# Altium schematic symbol library Real-Time Clocks (RTCs).SchLib: 548 symbols (part 10 of 13)
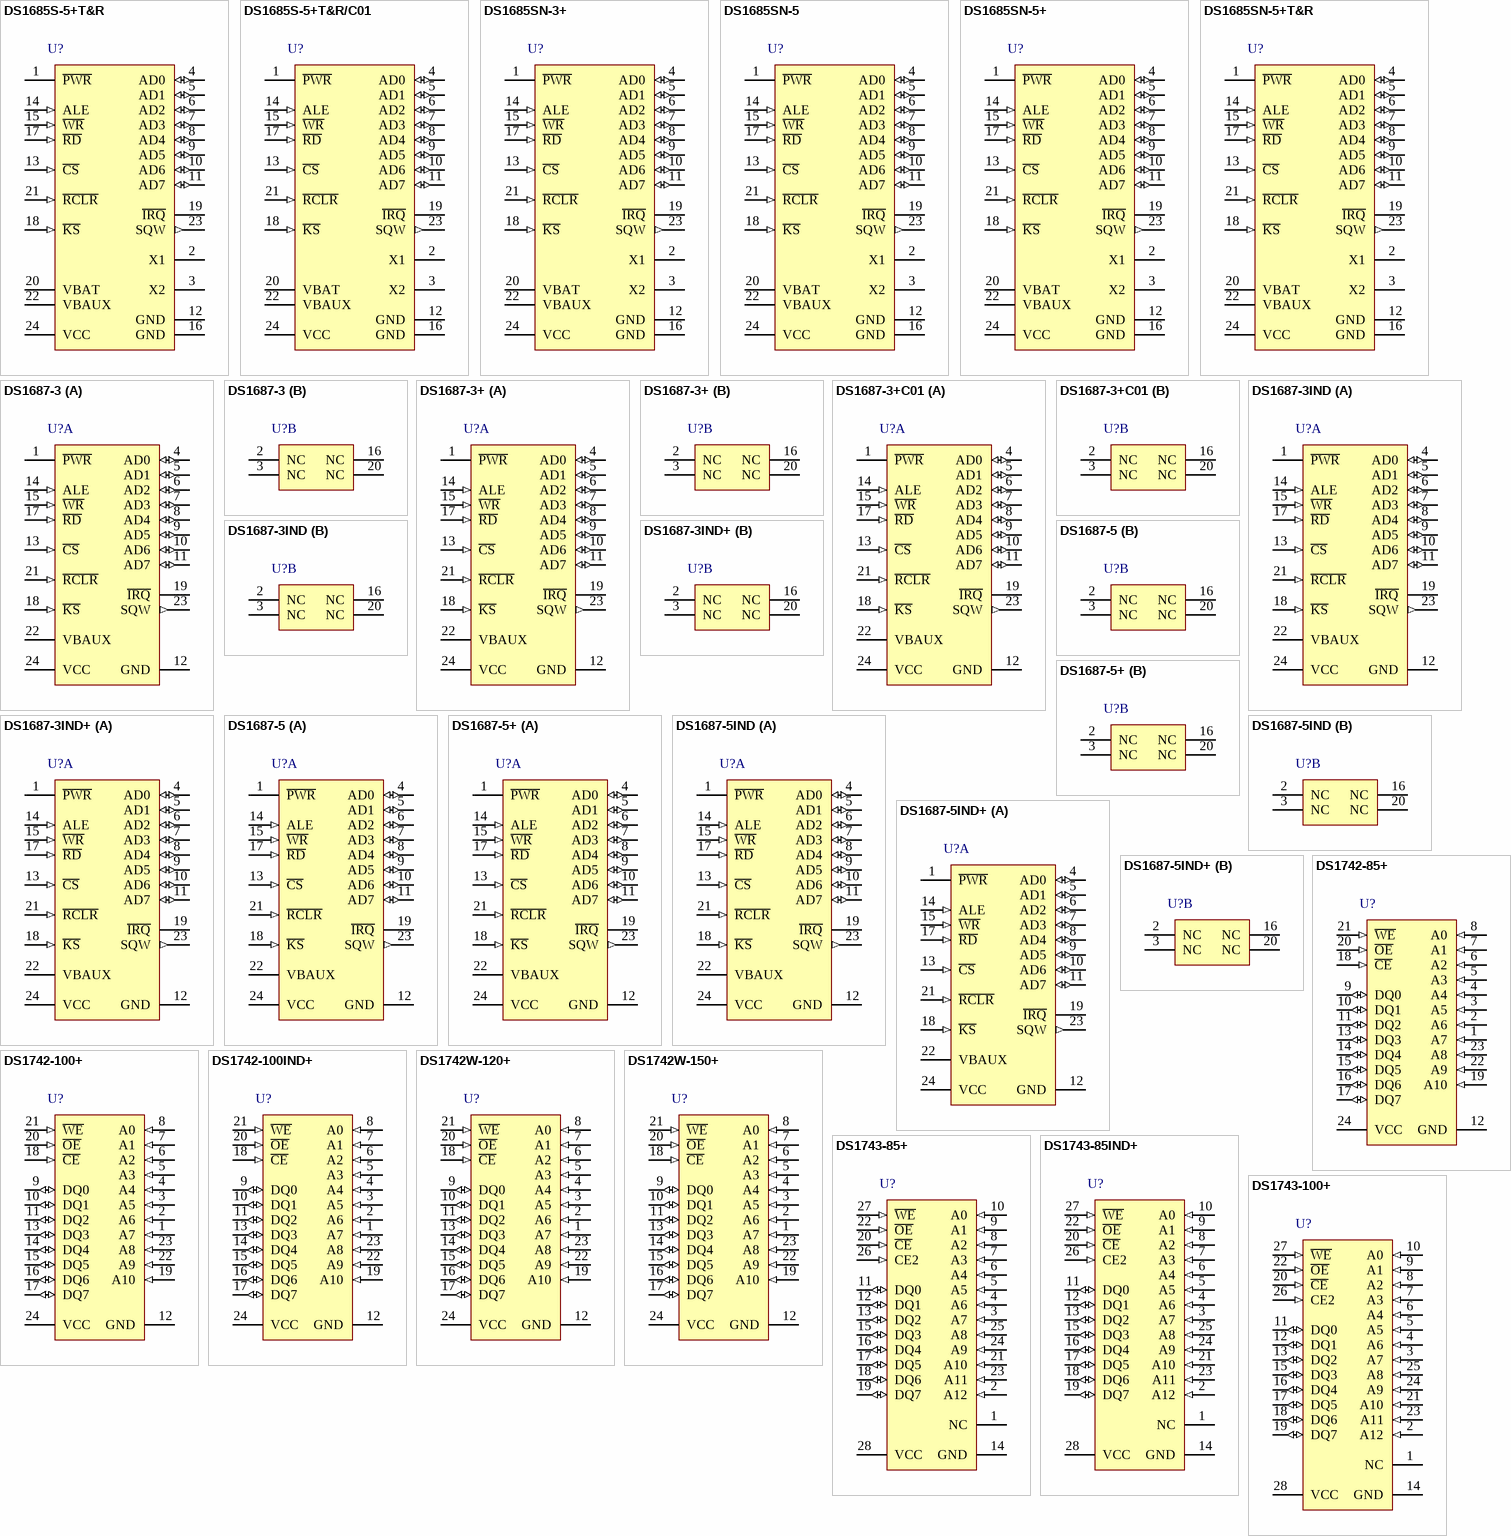
[diagram p30: symbols DS1685S-5+T&R to DS1743-100+]

## DS1687-3IND+
designator U?
Real-Time Clock, 242 Byte Battery-Backed NV RAM, 3.0V, 24-Pin EDIP, -40 to 85 degC, Pb-Free; DatasheetVersion: Apr-2010; PackageVersion: revA, Feb-2009; PackageReference: MDP24+2; PackageDescription: 24-Pin Encapsulated Dual-In-Line Module, 2.54 mm Pitch, EDIP, 740-mil, Pb-Free; ComponentLink1Description: Manufacturer URL; ComponentLink1URL: http://www.maxim-ic.com; ComponentLink2Description: Datasheet; ComponentLink2URL: http://datasheets.maxim-ic.com/en/ds/DS1685-DS1687.pdf; ComponentLink3Description: Package Specification; ComponentLink3URL: http://pdfserv.maxim-ic.com/package_dwgs/21-0241.PDF
footprint MDP24+2 (DIP; 24 Rectangular Pins, Body 33.8x18.5mm, Row Space 15.24mm, Pitch 2.54mm)
part A pins: 1 ~{PWR} (oc), 4 AD0 (io), 5 AD1 (io), 6 AD2 (io), 7 AD3 (io), 8 AD4 (io), 9 AD5 (io), 10 AD6 (io), 11 AD7 (io), 12 GND (power), 13 ~{CS} (in), 14 ALE (in), 15 ~{WR} (in), 17 ~{RD} (in), 18 ~{KS} (in), 19 ~{IRQ} (oc), 21 ~{RCLR} (in), 22 VBAUX (power), 23 SQW (out), 24 VCC (power)
part B pins: 2 NC, 3 NC, 16 NC, 20 NC

## DS1687-5
designator U?
Real-Time Clock, 242 Byte Battery-Backed NV RAM, 5.0V, 24-Pin EDIP, 0 to 70 degC; DatasheetVersion: Apr-2010; PackageVersion: revA, Feb-2009; PackageReference: MDP24-2; PackageDescription: 24-Pin Encapsulated Dual-In-Line Module, 2.54 mm Pitch, EDIP, 740-mil; ComponentLink1Description: Manufacturer URL; ComponentLink1URL: http://www.maxim-ic.com; ComponentLink2Description: Datasheet; ComponentLink2URL: http://datasheets.maxim-ic.com/en/ds/DS1685-DS1687.pdf; ComponentLink3Description: Package Specification; ComponentLink3URL: http://pdfserv.maxim-ic.com/package_dwgs/21-0241.PDF
footprint MDP24-2 (DIP; 24 Rectangular Pins, Body 33.8x18.5mm, Row Space 15.24mm, Pitch 2.54mm)
part A pins: 1 ~{PWR} (oc), 4 AD0 (io), 5 AD1 (io), 6 AD2 (io), 7 AD3 (io), 8 AD4 (io), 9 AD5 (io), 10 AD6 (io), 11 AD7 (io), 12 GND (power), 13 ~{CS} (in), 14 ALE (in), 15 ~{WR} (in), 17 ~{RD} (in), 18 ~{KS} (in), 19 ~{IRQ} (oc), 21 ~{RCLR} (in), 22 VBAUX (power), 23 SQW (out), 24 VCC (power)
part B pins: 2 NC, 3 NC, 16 NC, 20 NC

## DS1687-5+
designator U?
Real-Time Clock, 242 Byte Battery-Backed NV RAM, 5.0V, 24-Pin EDIP, 0 to 70 degC, Pb-Free; DatasheetVersion: Apr-2010; PackageVersion: revA, Feb-2009; PackageReference: MDP24+2; PackageDescription: 24-Pin Encapsulated Dual-In-Line Module, 2.54 mm Pitch, EDIP, 740-mil, Pb-Free; ComponentLink1Description: Manufacturer URL; ComponentLink1URL: http://www.maxim-ic.com; ComponentLink2Description: Datasheet; ComponentLink2URL: http://datasheets.maxim-ic.com/en/ds/DS1685-DS1687.pdf; ComponentLink3Description: Package Specification; ComponentLink3URL: http://pdfserv.maxim-ic.com/package_dwgs/21-0241.PDF
footprint MDP24+2 (DIP; 24 Rectangular Pins, Body 33.8x18.5mm, Row Space 15.24mm, Pitch 2.54mm)
part A pins: 1 ~{PWR} (oc), 4 AD0 (io), 5 AD1 (io), 6 AD2 (io), 7 AD3 (io), 8 AD4 (io), 9 AD5 (io), 10 AD6 (io), 11 AD7 (io), 12 GND (power), 13 ~{CS} (in), 14 ALE (in), 15 ~{WR} (in), 17 ~{RD} (in), 18 ~{KS} (in), 19 ~{IRQ} (oc), 21 ~{RCLR} (in), 22 VBAUX (power), 23 SQW (out), 24 VCC (power)
part B pins: 2 NC, 3 NC, 16 NC, 20 NC

## DS1687-5IND
designator U?
Real-Time Clock, 242 Byte Battery-Backed NV RAM, 5.0V, 24-Pin EDIP, -40 to 85 degC; DatasheetVersion: Apr-2010; PackageVersion: revA, Feb-2009; PackageReference: MDP24-2; PackageDescription: 24-Pin Encapsulated Dual-In-Line Module, 2.54 mm Pitch, EDIP, 740-mil; ComponentLink1Description: Manufacturer URL; ComponentLink1URL: http://www.maxim-ic.com; ComponentLink2Description: Datasheet; ComponentLink2URL: http://datasheets.maxim-ic.com/en/ds/DS1685-DS1687.pdf; ComponentLink3Description: Package Specification; ComponentLink3URL: http://pdfserv.maxim-ic.com/package_dwgs/21-0241.PDF
footprint MDP24-2 (DIP; 24 Rectangular Pins, Body 33.8x18.5mm, Row Space 15.24mm, Pitch 2.54mm)
part A pins: 1 ~{PWR} (oc), 4 AD0 (io), 5 AD1 (io), 6 AD2 (io), 7 AD3 (io), 8 AD4 (io), 9 AD5 (io), 10 AD6 (io), 11 AD7 (io), 12 GND (power), 13 ~{CS} (in), 14 ALE (in), 15 ~{WR} (in), 17 ~{RD} (in), 18 ~{KS} (in), 19 ~{IRQ} (oc), 21 ~{RCLR} (in), 22 VBAUX (power), 23 SQW (out), 24 VCC (power)
part B pins: 2 NC, 3 NC, 16 NC, 20 NC

## DS1687-5IND+
designator U?
Real-Time Clock, 242 Byte Battery-Backed NV RAM, 5.0V, 24-Pin EDIP, -40 to 85 degC, Pb-Free; DatasheetVersion: Apr-2010; PackageVersion: revA, Feb-2009; PackageReference: MDP24+2; PackageDescription: 24-Pin Encapsulated Dual-In-Line Module, 2.54 mm Pitch, EDIP, 740-mil, Pb-Free; ComponentLink1Description: Manufacturer URL; ComponentLink1URL: http://www.maxim-ic.com; ComponentLink2Description: Datasheet; ComponentLink2URL: http://datasheets.maxim-ic.com/en/ds/DS1685-DS1687.pdf; ComponentLink3Description: Package Specification; ComponentLink3URL: http://pdfserv.maxim-ic.com/package_dwgs/21-0241.PDF
footprint MDP24+2 (DIP; 24 Rectangular Pins, Body 33.8x18.5mm, Row Space 15.24mm, Pitch 2.54mm)
part A pins: 1 ~{PWR} (oc), 4 AD0 (io), 5 AD1 (io), 6 AD2 (io), 7 AD3 (io), 8 AD4 (io), 9 AD5 (io), 10 AD6 (io), 11 AD7 (io), 12 GND (power), 13 ~{CS} (in), 14 ALE (in), 15 ~{WR} (in), 17 ~{RD} (in), 18 ~{KS} (in), 19 ~{IRQ} (oc), 21 ~{RCLR} (in), 22 VBAUX (power), 23 SQW (out), 24 VCC (power)
part B pins: 2 NC, 3 NC, 16 NC, 20 NC

## DS1742-85+
designator U?
Y2K-Compliant Nonvolatile Timekeeping RAM, 5.0V, 24-Pin EDIP, 0 to 70 degC, Pb-Free; DatasheetVersion: Oct-2008; PackageVersion: revA, Feb-2009; PackageReference: MDF24+1; PackageDescription: 24-Pin Encapsulated Dual-In-Line Module, 2.54 mm Pitch, EDIP, Pb-Free; ComponentLink1Description: Manufacturer URL; ComponentLink1URL: http://www.maxim-ic.com; ComponentLink2Description: Datasheet; ComponentLink2URL: http://datasheets.maxim-ic.com/en/ds/DS1742.pdf; ComponentLink3Description: Package Specification; ComponentLink3URL: http://pdfserv.maxim-ic.com/package_dwgs/21-0245.PDF
footprint MDF24+1 (DIP, 24 Rectangular Pins, Body 33x17.8mm, Row Space 15.24mm, Pitch 2.54mm)
pins: 1 A7 (in), 2 A6 (in), 3 A5 (in), 4 A4 (in), 5 A3 (in), 6 A2 (in), 7 A1 (in), 8 A0 (in), 9 DQ0 (io), 10 DQ1 (io), 11 DQ2 (io), 12 GND (power), 13 DQ3 (io), 14 DQ4 (io), 15 DQ5 (io), 16 DQ6 (io), 17 DQ7 (io), 18 ~{CE} (in), 19 A10 (in), 20 ~{OE} (in), 21 ~{WE} (in), 22 A9 (in), 23 A8 (in), 24 VCC (power)

## DS1742-100+
designator U?
Y2K-Compliant Nonvolatile Timekeeping RAM, 5.0V, 24-Pin EDIP, 0 to 70 degC, Pb-Free; DatasheetVersion: Oct-2008; PackageVersion: revA, Feb-2009; PackageReference: MDF24+1; PackageDescription: 24-Pin Encapsulated Dual-In-Line Module, 2.54 mm Pitch, EDIP, Pb-Free; ComponentLink1Description: Manufacturer URL; ComponentLink1URL: http://www.maxim-ic.com; ComponentLink2Description: Datasheet; ComponentLink2URL: http://datasheets.maxim-ic.com/en/ds/DS1742.pdf; ComponentLink3Description: Package Specification; ComponentLink3URL: http://pdfserv.maxim-ic.com/package_dwgs/21-0245.PDF
footprint MDF24+1 (DIP, 24 Rectangular Pins, Body 33x17.8mm, Row Space 15.24mm, Pitch 2.54mm)
pins: 1 A7 (in), 2 A6 (in), 3 A5 (in), 4 A4 (in), 5 A3 (in), 6 A2 (in), 7 A1 (in), 8 A0 (in), 9 DQ0 (io), 10 DQ1 (io), 11 DQ2 (io), 12 GND (power), 13 DQ3 (io), 14 DQ4 (io), 15 DQ5 (io), 16 DQ6 (io), 17 DQ7 (io), 18 ~{CE} (in), 19 A10 (in), 20 ~{OE} (in), 21 ~{WE} (in), 22 A9 (in), 23 A8 (in), 24 VCC (power)

## DS1742-100IND+
designator U?
Y2K-Compliant Nonvolatile Timekeeping RAM, 5.0V, 24-Pin EDIP, -40 to 85 degC, Pb-Free; DatasheetVersion: Oct-2008; PackageVersion: revA, Feb-2009; PackageReference: MDF24+1; PackageDescription: 24-Pin Encapsulated Dual-In-Line Module, 2.54 mm Pitch, EDIP, Pb-Free; ComponentLink1Description: Manufacturer URL; ComponentLink1URL: http://www.maxim-ic.com; ComponentLink2Description: Datasheet; ComponentLink2URL: http://datasheets.maxim-ic.com/en/ds/DS1742.pdf; ComponentLink3Description: Package Specification; ComponentLink3URL: http://pdfserv.maxim-ic.com/package_dwgs/21-0245.PDF
footprint MDF24+1 (DIP, 24 Rectangular Pins, Body 33x17.8mm, Row Space 15.24mm, Pitch 2.54mm)
pins: 1 A7 (in), 2 A6 (in), 3 A5 (in), 4 A4 (in), 5 A3 (in), 6 A2 (in), 7 A1 (in), 8 A0 (in), 9 DQ0 (io), 10 DQ1 (io), 11 DQ2 (io), 12 GND (power), 13 DQ3 (io), 14 DQ4 (io), 15 DQ5 (io), 16 DQ6 (io), 17 DQ7 (io), 18 ~{CE} (in), 19 A10 (in), 20 ~{OE} (in), 21 ~{WE} (in), 22 A9 (in), 23 A8 (in), 24 VCC (power)

## DS1742W-120+
designator U?
Y2K-Compliant Nonvolatile Timekeeping RAM, 3.3V, 24-Pin EDIP, 0 to 70 degC, Pb-Free; DatasheetVersion: Oct-2008; PackageVersion: revA, Feb-2009; PackageReference: MDF24+1; PackageDescription: 24-Pin Encapsulated Dual-In-Line Module, 2.54 mm Pitch, EDIP, Pb-Free; ComponentLink1Description: Manufacturer URL; ComponentLink1URL: http://www.maxim-ic.com; ComponentLink2Description: Datasheet; ComponentLink2URL: http://datasheets.maxim-ic.com/en/ds/DS1742.pdf; ComponentLink3Description: Package Specification; ComponentLink3URL: http://pdfserv.maxim-ic.com/package_dwgs/21-0245.PDF
footprint MDF24+1 (DIP, 24 Rectangular Pins, Body 33x17.8mm, Row Space 15.24mm, Pitch 2.54mm)
pins: 1 A7 (in), 2 A6 (in), 3 A5 (in), 4 A4 (in), 5 A3 (in), 6 A2 (in), 7 A1 (in), 8 A0 (in), 9 DQ0 (io), 10 DQ1 (io), 11 DQ2 (io), 12 GND (power), 13 DQ3 (io), 14 DQ4 (io), 15 DQ5 (io), 16 DQ6 (io), 17 DQ7 (io), 18 ~{CE} (in), 19 A10 (in), 20 ~{OE} (in), 21 ~{WE} (in), 22 A9 (in), 23 A8 (in), 24 VCC (power)

## DS1742W-150+
designator U?
Y2K-Compliant Nonvolatile Timekeeping RAM, 3.3V, 24-Pin EDIP, 0 to 70 degC, Pb-Free; DatasheetVersion: Oct-2008; PackageVersion: revA, Feb-2009; PackageReference: MDF24+1; PackageDescription: 24-Pin Encapsulated Dual-In-Line Module, 2.54 mm Pitch, EDIP, Pb-Free; ComponentLink1Description: Manufacturer URL; ComponentLink1URL: http://www.maxim-ic.com; ComponentLink2Description: Datasheet; ComponentLink2URL: http://datasheets.maxim-ic.com/en/ds/DS1742.pdf; ComponentLink3Description: Package Specification; ComponentLink3URL: http://pdfserv.maxim-ic.com/package_dwgs/21-0245.PDF
footprint MDF24+1 (DIP, 24 Rectangular Pins, Body 33x17.8mm, Row Space 15.24mm, Pitch 2.54mm)
pins: 1 A7 (in), 2 A6 (in), 3 A5 (in), 4 A4 (in), 5 A3 (in), 6 A2 (in), 7 A1 (in), 8 A0 (in), 9 DQ0 (io), 10 DQ1 (io), 11 DQ2 (io), 12 GND (power), 13 DQ3 (io), 14 DQ4 (io), 15 DQ5 (io), 16 DQ6 (io), 17 DQ7 (io), 18 ~{CE} (in), 19 A10 (in), 20 ~{OE} (in), 21 ~{WE} (in), 22 A9 (in), 23 A8 (in), 24 VCC (power)

## DS1743-85+
designator U?
Y2K-Compliant Nonvolatile Timekeeping RAM, 5.0V, 28-Pin EDIP, 0 to 70 degC, Pb-Free; DatasheetVersion: Apr-2007; PackageVersion: revA, Feb-2009; PackageReference: MDF28+2; PackageDescription: 28-Pin Encapsulated Dual-In-Line Module, 2.54 mm Pitch, EDIP, 740-mil, Pb-Free; ComponentLink1Description: Manufacturer URL; ComponentLink1URL: http://www.maxim-ic.com; ComponentLink2Description: Datasheet; ComponentLink2URL: http://datasheets.maxim-ic.com/en/ds/DS1743-DS1743P.pdf; ComponentLink3Description: Package Specification; ComponentLink3URL: http://pdfserv.maxim-ic.com/package_dwgs/21-0245.PDF
footprint MDF28+2 (DIP, 28 Rectangular Pins, Body 38.2x18.5mm, Row Space 15.24mm, Pitch 2.54mm)
pins: 1 NC, 2 A12 (in), 3 A7 (in), 4 A6 (in), 5 A5 (in), 6 A4 (in), 7 A3 (in), 8 A2 (in), 9 A1 (in), 10 A0 (in), 11 DQ0 (io), 12 DQ1 (io), 13 DQ2 (io), 14 GND (power), 15 DQ3 (io), 16 DQ4 (io), 17 DQ5 (io), 18 DQ6 (io), 19 DQ7 (io), 20 ~{CE} (in), 21 A10 (in), 22 ~{OE} (in), 23 A11 (in), 24 A9 (in), 25 A8 (in), 26 CE2 (in), 27 ~{WE} (in), 28 VCC (power)

## DS1743-85IND+
designator U?
Y2K-Compliant Nonvolatile Timekeeping RAM, 5.0V, 28-Pin EDIP, -40 to 85 degC, Pb-Free; DatasheetVersion: Apr-2007; PackageVersion: revA, Feb-2009; PackageReference: MDF28+2; PackageDescription: 28-Pin Encapsulated Dual-In-Line Module, 2.54 mm Pitch, EDIP, 740-mil, Pb-Free; ComponentLink1Description: Manufacturer URL; ComponentLink1URL: http://www.maxim-ic.com; ComponentLink2Description: Datasheet; ComponentLink2URL: http://datasheets.maxim-ic.com/en/ds/DS1743-DS1743P.pdf; ComponentLink3Description: Package Specification; ComponentLink3URL: http://pdfserv.maxim-ic.com/package_dwgs/21-0245.PDF
footprint MDF28+2 (DIP, 28 Rectangular Pins, Body 38.2x18.5mm, Row Space 15.24mm, Pitch 2.54mm)
pins: 1 NC, 2 A12 (in), 3 A7 (in), 4 A6 (in), 5 A5 (in), 6 A4 (in), 7 A3 (in), 8 A2 (in), 9 A1 (in), 10 A0 (in), 11 DQ0 (io), 12 DQ1 (io), 13 DQ2 (io), 14 GND (power), 15 DQ3 (io), 16 DQ4 (io), 17 DQ5 (io), 18 DQ6 (io), 19 DQ7 (io), 20 ~{CE} (in), 21 A10 (in), 22 ~{OE} (in), 23 A11 (in), 24 A9 (in), 25 A8 (in), 26 CE2 (in), 27 ~{WE} (in), 28 VCC (power)

## DS1743-100+
designator U?
Y2K-Compliant Nonvolatile Timekeeping RAM, 5.0V, 28-Pin EDIP, 0 to 70 degC, Pb-Free; DatasheetVersion: Apr-2007; PackageVersion: revA, Feb-2009; PackageReference: MDF28+2; PackageDescription: 28-Pin Encapsulated Dual-In-Line Module, 2.54 mm Pitch, EDIP, 740-mil, Pb-Free; ComponentLink1Description: Manufacturer URL; ComponentLink1URL: http://www.maxim-ic.com; ComponentLink2Description: Datasheet; ComponentLink2URL: http://datasheets.maxim-ic.com/en/ds/DS1743-DS1743P.pdf; ComponentLink3Description: Package Specification; ComponentLink3URL: http://pdfserv.maxim-ic.com/package_dwgs/21-0245.PDF
footprint MDF28+2 (DIP, 28 Rectangular Pins, Body 38.2x18.5mm, Row Space 15.24mm, Pitch 2.54mm)
pins: 1 NC, 2 A12 (in), 3 A7 (in), 4 A6 (in), 5 A5 (in), 6 A4 (in), 7 A3 (in), 8 A2 (in), 9 A1 (in), 10 A0 (in), 11 DQ0 (io), 12 DQ1 (io), 13 DQ2 (io), 14 GND (power), 15 DQ3 (io), 16 DQ4 (io), 17 DQ5 (io), 18 DQ6 (io), 19 DQ7 (io), 20 ~{CE} (in), 21 A10 (in), 22 ~{OE} (in), 23 A11 (in), 24 A9 (in), 25 A8 (in), 26 CE2 (in), 27 ~{WE} (in), 28 VCC (power)

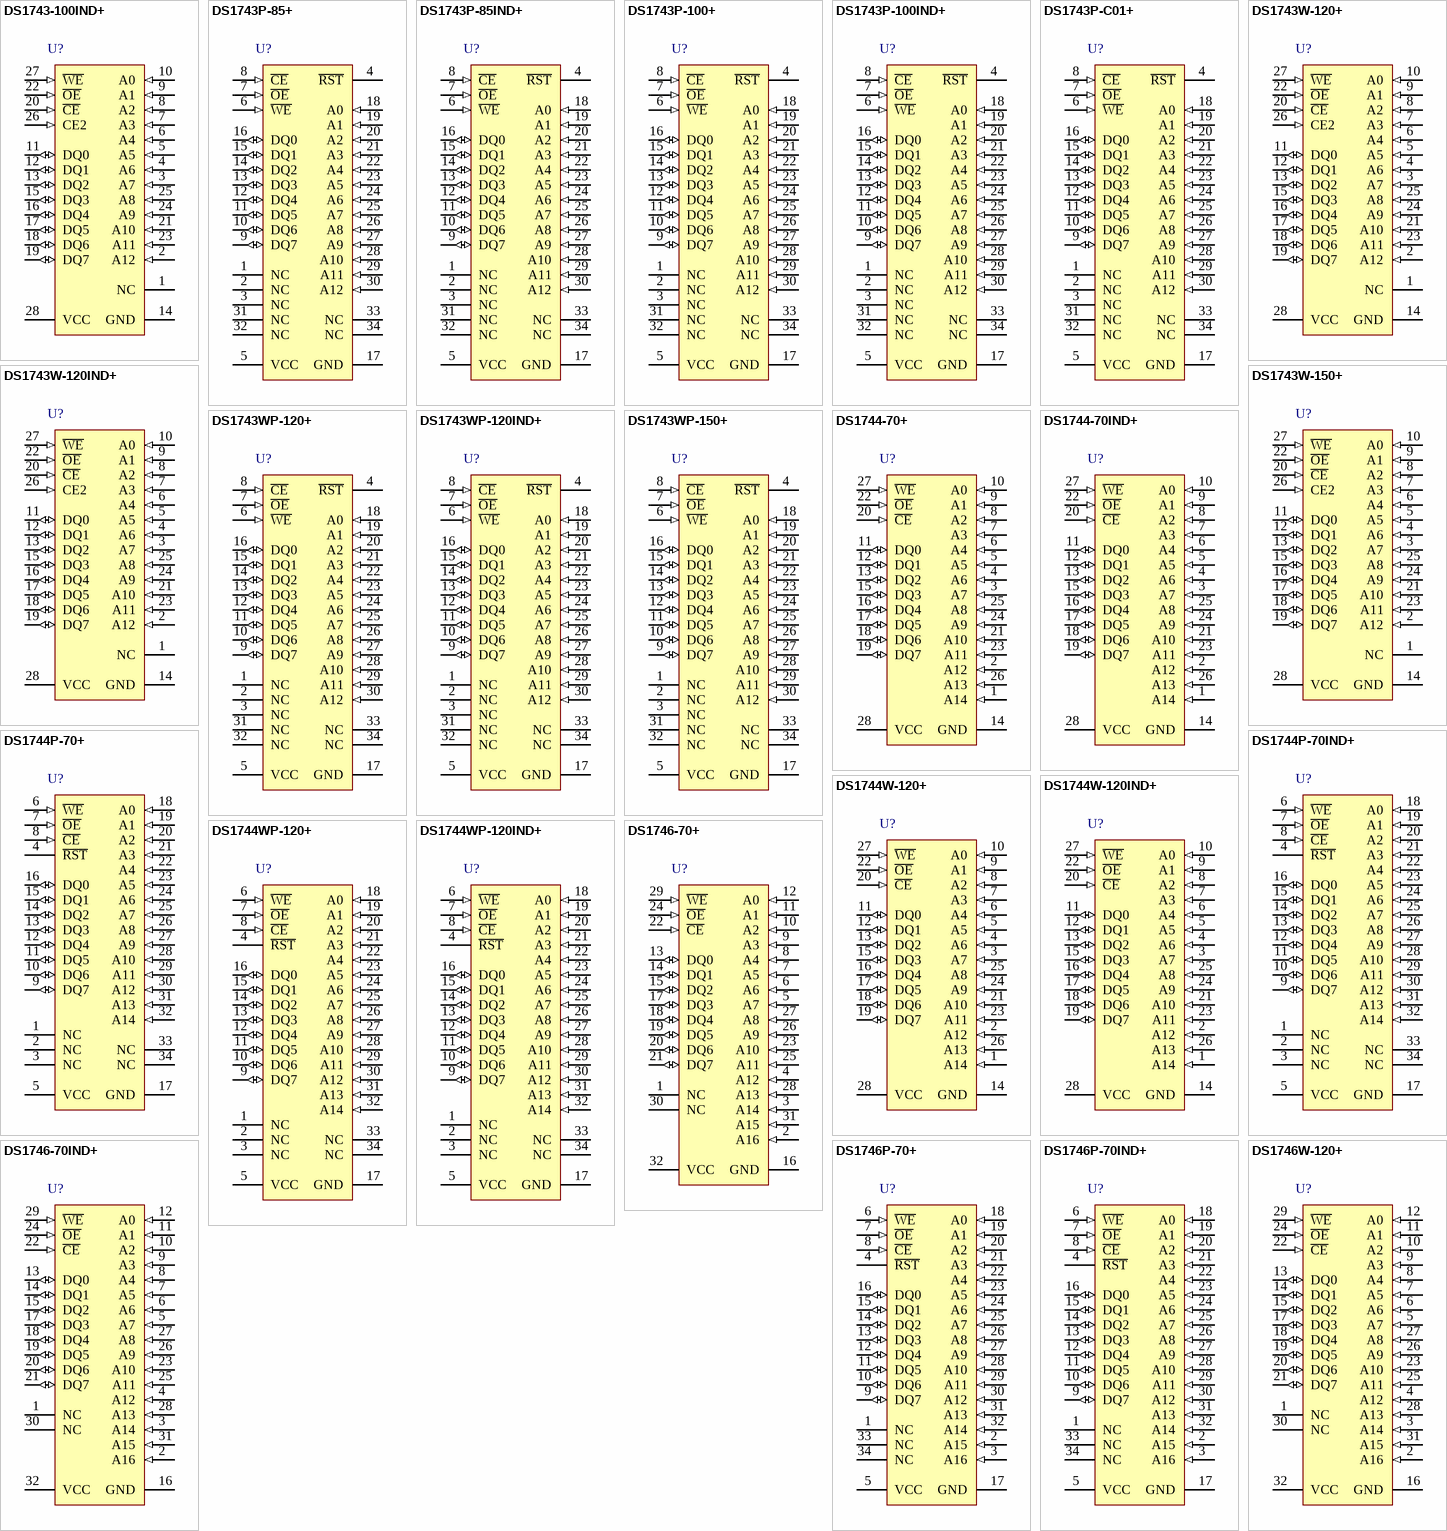
[diagram p16: symbols DS1743-100IND+ to DS1746W-120+]

## DS1743-100IND+
designator U?
Y2K-Compliant Nonvolatile Timekeeping RAM, 5.0V, 28-Pin EDIP, -40 to 85 degC, Pb-Free; DatasheetVersion: Apr-2007; PackageVersion: revA, Feb-2009; PackageReference: MDF28+2; PackageDescription: 28-Pin Encapsulated Dual-In-Line Module, 2.54 mm Pitch, EDIP, 740-mil, Pb-Free; ComponentLink1Description: Manufacturer URL; ComponentLink1URL: http://www.maxim-ic.com; ComponentLink2Description: Datasheet; ComponentLink2URL: http://datasheets.maxim-ic.com/en/ds/DS1743-DS1743P.pdf; ComponentLink3Description: Package Specification; ComponentLink3URL: http://pdfserv.maxim-ic.com/package_dwgs/21-0245.PDF
footprint MDF28+2 (DIP, 28 Rectangular Pins, Body 38.2x18.5mm, Row Space 15.24mm, Pitch 2.54mm)
pins: 1 NC, 2 A12 (in), 3 A7 (in), 4 A6 (in), 5 A5 (in), 6 A4 (in), 7 A3 (in), 8 A2 (in), 9 A1 (in), 10 A0 (in), 11 DQ0 (io), 12 DQ1 (io), 13 DQ2 (io), 14 GND (power), 15 DQ3 (io), 16 DQ4 (io), 17 DQ5 (io), 18 DQ6 (io), 19 DQ7 (io), 20 ~{CE} (in), 21 A10 (in), 22 ~{OE} (in), 23 A11 (in), 24 A9 (in), 25 A8 (in), 26 CE2 (in), 27 ~{WE} (in), 28 VCC (power)

## DS1743P-85+
designator U?
Y2K-Compliant Nonvolatile Timekeeping RAM, 5.0V, 34-Pin PowerCap, 0 to 70 degC, Pb-Free; DatasheetVersion: Apr-2007; PackageVersion: revA, 2004; PackageReference: PC1+2; PackageDescription: 34-Pin PowerCap 0.990 Module with Cap, PCAP, Pb-Free; ComponentLink1Description: Manufacturer URL; ComponentLink1URL: http://www.maxim-ic.com; ComponentLink2Description: Datasheet; ComponentLink2URL: http://datasheets.maxim-ic.com/en/ds/DS1743-DS1743P.pdf; ComponentLink3Description: Package Specification; ComponentLink3URL: http://pdfserv.maxim-ic.com/package_dwgs/21-0246.PDF
footprint PC1+2 (PowerCap Module with Cap, 34-Leads, Body 24.7 x.25.3mm, Pitch 1.27mm)
pins: 1 NC, 2 NC, 3 NC, 4 ~{RST} (oc), 5 VCC (power), 6 ~{WE} (in), 7 ~{OE} (in), 8 ~{CE} (in), 9 DQ7 (io), 10 DQ6 (io), 11 DQ5 (io), 12 DQ4 (io), 13 DQ3 (io), 14 DQ2 (io), 15 DQ1 (io), 16 DQ0 (io), 17 GND (power), 18 A0 (in), 19 A1 (in), 20 A2 (in), 21 A3 (in), 22 A4 (in), 23 A5 (in), 24 A6 (in), 25 A7 (in), 26 A8 (in), 27 A9 (in), 28 A10 (in), 29 A11 (in), 30 A12 (in), 31 NC, 32 NC, 33 NC, 34 NC

## DS1743P-85IND+
designator U?
Y2K-Compliant Nonvolatile Timekeeping RAM, 5.0V, 34-Pin PowerCap, -40 to 85 degC, Pb-Free; DatasheetVersion: Apr-2007; PackageVersion: revA, 2004; PackageReference: PC1+2; PackageDescription: 34-Pin PowerCap 0.990 Module with Cap, PCAP, Pb-Free; ComponentLink1Description: Manufacturer URL; ComponentLink1URL: http://www.maxim-ic.com; ComponentLink2Description: Datasheet; ComponentLink2URL: http://datasheets.maxim-ic.com/en/ds/DS1743-DS1743P.pdf; ComponentLink3Description: Package Specification; ComponentLink3URL: http://pdfserv.maxim-ic.com/package_dwgs/21-0246.PDF
footprint PC1+2 (PowerCap Module with Cap, 34-Leads, Body 24.7 x.25.3mm, Pitch 1.27mm)
pins: 1 NC, 2 NC, 3 NC, 4 ~{RST} (oc), 5 VCC (power), 6 ~{WE} (in), 7 ~{OE} (in), 8 ~{CE} (in), 9 DQ7 (io), 10 DQ6 (io), 11 DQ5 (io), 12 DQ4 (io), 13 DQ3 (io), 14 DQ2 (io), 15 DQ1 (io), 16 DQ0 (io), 17 GND (power), 18 A0 (in), 19 A1 (in), 20 A2 (in), 21 A3 (in), 22 A4 (in), 23 A5 (in), 24 A6 (in), 25 A7 (in), 26 A8 (in), 27 A9 (in), 28 A10 (in), 29 A11 (in), 30 A12 (in), 31 NC, 32 NC, 33 NC, 34 NC

## DS1743P-100+
designator U?
Y2K-Compliant Nonvolatile Timekeeping RAM, 5.0V, 34-Pin PowerCap, 0 to 70 degC, Pb-Free; DatasheetVersion: Apr-2007; PackageVersion: revA, 2004; PackageReference: PC1+2; PackageDescription: 34-Pin PowerCap 0.990 Module with Cap, PCAP, Pb-Free; ComponentLink1Description: Manufacturer URL; ComponentLink1URL: http://www.maxim-ic.com; ComponentLink2Description: Datasheet; ComponentLink2URL: http://datasheets.maxim-ic.com/en/ds/DS1743-DS1743P.pdf; ComponentLink3Description: Package Specification; ComponentLink3URL: http://pdfserv.maxim-ic.com/package_dwgs/21-0246.PDF
footprint PC1+2 (PowerCap Module with Cap, 34-Leads, Body 24.7 x.25.3mm, Pitch 1.27mm)
pins: 1 NC, 2 NC, 3 NC, 4 ~{RST} (oc), 5 VCC (power), 6 ~{WE} (in), 7 ~{OE} (in), 8 ~{CE} (in), 9 DQ7 (io), 10 DQ6 (io), 11 DQ5 (io), 12 DQ4 (io), 13 DQ3 (io), 14 DQ2 (io), 15 DQ1 (io), 16 DQ0 (io), 17 GND (power), 18 A0 (in), 19 A1 (in), 20 A2 (in), 21 A3 (in), 22 A4 (in), 23 A5 (in), 24 A6 (in), 25 A7 (in), 26 A8 (in), 27 A9 (in), 28 A10 (in), 29 A11 (in), 30 A12 (in), 31 NC, 32 NC, 33 NC, 34 NC

## DS1743P-100IND+
designator U?
Y2K-Compliant Nonvolatile Timekeeping RAM, 5.0V, 34-Pin PowerCap, 0 to 70 degC, Pb-Free; DatasheetVersion: Apr-2007; PackageVersion: revA, 2004; PackageReference: PC1+2; PackageDescription: 34-Pin PowerCap 0.990 Module with Cap, PCAP, Pb-Free; ComponentLink1Description: Manufacturer URL; ComponentLink1URL: http://www.maxim-ic.com; ComponentLink2Description: Datasheet; ComponentLink2URL: http://datasheets.maxim-ic.com/en/ds/DS1743-DS1743P.pdf; ComponentLink3Description: Package Specification; ComponentLink3URL: http://pdfserv.maxim-ic.com/package_dwgs/21-0246.PDF
footprint PC1+2 (PowerCap Module with Cap, 34-Leads, Body 24.7 x.25.3mm, Pitch 1.27mm)
pins: 1 NC, 2 NC, 3 NC, 4 ~{RST} (oc), 5 VCC (power), 6 ~{WE} (in), 7 ~{OE} (in), 8 ~{CE} (in), 9 DQ7 (io), 10 DQ6 (io), 11 DQ5 (io), 12 DQ4 (io), 13 DQ3 (io), 14 DQ2 (io), 15 DQ1 (io), 16 DQ0 (io), 17 GND (power), 18 A0 (in), 19 A1 (in), 20 A2 (in), 21 A3 (in), 22 A4 (in), 23 A5 (in), 24 A6 (in), 25 A7 (in), 26 A8 (in), 27 A9 (in), 28 A10 (in), 29 A11 (in), 30 A12 (in), 31 NC, 32 NC, 33 NC, 34 NC

## DS1743P-C01+
designator U?
Y2K-Compliant Nonvolatile Timekeeping RAM, 5.0V, 34-Pin PowerCap, 0 to 70 degC, Pb-Free; DatasheetVersion: Apr-2007; PackageVersion: revA, 2004; PackageReference: PC1+2; PackageDescription: 34-Pin PowerCap 0.990 Module with Cap, PCAP, Pb-Free; ComponentLink1Description: Manufacturer URL; ComponentLink1URL: http://www.maxim-ic.com; ComponentLink2Description: Datasheet; ComponentLink2URL: http://datasheets.maxim-ic.com/en/ds/DS1743-DS1743P.pdf; ComponentLink3Description: Package Specification; ComponentLink3URL: http://pdfserv.maxim-ic.com/package_dwgs/21-0246.PDF
footprint PC1+2 (PowerCap Module with Cap, 34-Leads, Body 24.7 x.25.3mm, Pitch 1.27mm)
pins: 1 NC, 2 NC, 3 NC, 4 ~{RST} (oc), 5 VCC (power), 6 ~{WE} (in), 7 ~{OE} (in), 8 ~{CE} (in), 9 DQ7 (io), 10 DQ6 (io), 11 DQ5 (io), 12 DQ4 (io), 13 DQ3 (io), 14 DQ2 (io), 15 DQ1 (io), 16 DQ0 (io), 17 GND (power), 18 A0 (in), 19 A1 (in), 20 A2 (in), 21 A3 (in), 22 A4 (in), 23 A5 (in), 24 A6 (in), 25 A7 (in), 26 A8 (in), 27 A9 (in), 28 A10 (in), 29 A11 (in), 30 A12 (in), 31 NC, 32 NC, 33 NC, 34 NC

## DS1743W-120+
designator U?
Y2K-Compliant Nonvolatile Timekeeping RAM, 3.3V, 28-Pin EDIP, 0 to 70 degC, Pb-Free; DatasheetVersion: Apr-2007; PackageVersion: revA, Feb-2009; PackageReference: MDF28+2; PackageDescription: 28-Pin Encapsulated Dual-In-Line Module, 2.54 mm Pitch, EDIP, 740-mil, Pb-Free; ComponentLink1Description: Manufacturer URL; ComponentLink1URL: http://www.maxim-ic.com; ComponentLink2Description: Datasheet; ComponentLink2URL: http://datasheets.maxim-ic.com/en/ds/DS1743-DS1743P.pdf; ComponentLink3Description: Package Specification; ComponentLink3URL: http://pdfserv.maxim-ic.com/package_dwgs/21-0245.PDF
footprint MDF28+2 (DIP, 28 Rectangular Pins, Body 38.2x18.5mm, Row Space 15.24mm, Pitch 2.54mm)
pins: 1 NC, 2 A12 (in), 3 A7 (in), 4 A6 (in), 5 A5 (in), 6 A4 (in), 7 A3 (in), 8 A2 (in), 9 A1 (in), 10 A0 (in), 11 DQ0 (io), 12 DQ1 (io), 13 DQ2 (io), 14 GND (power), 15 DQ3 (io), 16 DQ4 (io), 17 DQ5 (io), 18 DQ6 (io), 19 DQ7 (io), 20 ~{CE} (in), 21 A10 (in), 22 ~{OE} (in), 23 A11 (in), 24 A9 (in), 25 A8 (in), 26 CE2 (in), 27 ~{WE} (in), 28 VCC (power)

## DS1743W-120IND+
designator U?
Y2K-Compliant Nonvolatile Timekeeping RAM, 3.3V, 28-Pin EDIP, -40 to 85 degC, Pb-Free; DatasheetVersion: Apr-2007; PackageVersion: revA, Feb-2009; PackageReference: MDF28+2; PackageDescription: 28-Pin Encapsulated Dual-In-Line Module, 2.54 mm Pitch, EDIP, 740-mil, Pb-Free; ComponentLink1Description: Manufacturer URL; ComponentLink1URL: http://www.maxim-ic.com; ComponentLink2Description: Datasheet; ComponentLink2URL: http://datasheets.maxim-ic.com/en/ds/DS1743-DS1743P.pdf; ComponentLink3Description: Package Specification; ComponentLink3URL: http://pdfserv.maxim-ic.com/package_dwgs/21-0245.PDF
footprint MDF28+2 (DIP, 28 Rectangular Pins, Body 38.2x18.5mm, Row Space 15.24mm, Pitch 2.54mm)
pins: 1 NC, 2 A12 (in), 3 A7 (in), 4 A6 (in), 5 A5 (in), 6 A4 (in), 7 A3 (in), 8 A2 (in), 9 A1 (in), 10 A0 (in), 11 DQ0 (io), 12 DQ1 (io), 13 DQ2 (io), 14 GND (power), 15 DQ3 (io), 16 DQ4 (io), 17 DQ5 (io), 18 DQ6 (io), 19 DQ7 (io), 20 ~{CE} (in), 21 A10 (in), 22 ~{OE} (in), 23 A11 (in), 24 A9 (in), 25 A8 (in), 26 CE2 (in), 27 ~{WE} (in), 28 VCC (power)

## DS1743W-150+
designator U?
Y2K-Compliant Nonvolatile Timekeeping RAM, 3.3V, 28-Pin EDIP, 0 to 70 degC, Pb-Free; DatasheetVersion: Apr-2007; PackageVersion: revA, Feb-2009; PackageReference: MDF28+2; PackageDescription: 28-Pin Encapsulated Dual-In-Line Module, 2.54 mm Pitch, EDIP, 740-mil, Pb-Free; ComponentLink1Description: Manufacturer URL; ComponentLink1URL: http://www.maxim-ic.com; ComponentLink2Description: Datasheet; ComponentLink2URL: http://datasheets.maxim-ic.com/en/ds/DS1743-DS1743P.pdf; ComponentLink3Description: Package Specification; ComponentLink3URL: http://pdfserv.maxim-ic.com/package_dwgs/21-0245.PDF
footprint MDF28+2 (DIP, 28 Rectangular Pins, Body 38.2x18.5mm, Row Space 15.24mm, Pitch 2.54mm)
pins: 1 NC, 2 A12 (in), 3 A7 (in), 4 A6 (in), 5 A5 (in), 6 A4 (in), 7 A3 (in), 8 A2 (in), 9 A1 (in), 10 A0 (in), 11 DQ0 (io), 12 DQ1 (io), 13 DQ2 (io), 14 GND (power), 15 DQ3 (io), 16 DQ4 (io), 17 DQ5 (io), 18 DQ6 (io), 19 DQ7 (io), 20 ~{CE} (in), 21 A10 (in), 22 ~{OE} (in), 23 A11 (in), 24 A9 (in), 25 A8 (in), 26 CE2 (in), 27 ~{WE} (in), 28 VCC (power)

## DS1743WP-120+
designator U?
Y2K-Compliant Nonvolatile Timekeeping RAM, 3.3V, 34-Pin PowerCap, 0 to 70 degC, Pb-Free; DatasheetVersion: Apr-2007; PackageVersion: revA, 2004; PackageReference: PC1+2; PackageDescription: 34-Pin PowerCap 0.990 Module with Cap, PCAP, Pb-Free; ComponentLink1Description: Manufacturer URL; ComponentLink1URL: http://www.maxim-ic.com; ComponentLink2Description: Datasheet; ComponentLink2URL: http://datasheets.maxim-ic.com/en/ds/DS1743-DS1743P.pdf; ComponentLink3Description: Package Specification; ComponentLink3URL: http://pdfserv.maxim-ic.com/package_dwgs/21-0246.PDF
footprint PC1+2 (PowerCap Module with Cap, 34-Leads, Body 24.7 x.25.3mm, Pitch 1.27mm)
pins: 1 NC, 2 NC, 3 NC, 4 ~{RST} (oc), 5 VCC (power), 6 ~{WE} (in), 7 ~{OE} (in), 8 ~{CE} (in), 9 DQ7 (io), 10 DQ6 (io), 11 DQ5 (io), 12 DQ4 (io), 13 DQ3 (io), 14 DQ2 (io), 15 DQ1 (io), 16 DQ0 (io), 17 GND (power), 18 A0 (in), 19 A1 (in), 20 A2 (in), 21 A3 (in), 22 A4 (in), 23 A5 (in), 24 A6 (in), 25 A7 (in), 26 A8 (in), 27 A9 (in), 28 A10 (in), 29 A11 (in), 30 A12 (in), 31 NC, 32 NC, 33 NC, 34 NC

## DS1743WP-120IND+
designator U?
Y2K-Compliant Nonvolatile Timekeeping RAM, 3.3V, 34-Pin PowerCap, -40 to 85 degC, Pb-Free; DatasheetVersion: Apr-2007; PackageVersion: revA, 2004; PackageReference: PC1+2; PackageDescription: 34-Pin PowerCap 0.990 Module with Cap, PCAP, Pb-Free; ComponentLink1Description: Manufacturer URL; ComponentLink1URL: http://www.maxim-ic.com; ComponentLink2Description: Datasheet; ComponentLink2URL: http://datasheets.maxim-ic.com/en/ds/DS1743-DS1743P.pdf; ComponentLink3Description: Package Specification; ComponentLink3URL: http://pdfserv.maxim-ic.com/package_dwgs/21-0246.PDF
footprint PC1+2 (PowerCap Module with Cap, 34-Leads, Body 24.7 x.25.3mm, Pitch 1.27mm)
pins: 1 NC, 2 NC, 3 NC, 4 ~{RST} (oc), 5 VCC (power), 6 ~{WE} (in), 7 ~{OE} (in), 8 ~{CE} (in), 9 DQ7 (io), 10 DQ6 (io), 11 DQ5 (io), 12 DQ4 (io), 13 DQ3 (io), 14 DQ2 (io), 15 DQ1 (io), 16 DQ0 (io), 17 GND (power), 18 A0 (in), 19 A1 (in), 20 A2 (in), 21 A3 (in), 22 A4 (in), 23 A5 (in), 24 A6 (in), 25 A7 (in), 26 A8 (in), 27 A9 (in), 28 A10 (in), 29 A11 (in), 30 A12 (in), 31 NC, 32 NC, 33 NC, 34 NC

## DS1743WP-150+
designator U?
Y2K-Compliant Nonvolatile Timekeeping RAM, 3.3V, 34-Pin PowerCap, 0 to 70 degC, Pb-Free; DatasheetVersion: Apr-2007; PackageVersion: revA, 2004; PackageReference: PC1+2; PackageDescription: 34-Pin PowerCap 0.990 Module with Cap, PCAP, Pb-Free; ComponentLink1Description: Manufacturer URL; ComponentLink1URL: http://www.maxim-ic.com; ComponentLink2Description: Datasheet; ComponentLink2URL: http://datasheets.maxim-ic.com/en/ds/DS1743-DS1743P.pdf; ComponentLink3Description: Package Specification; ComponentLink3URL: http://pdfserv.maxim-ic.com/package_dwgs/21-0246.PDF
footprint PC1+2 (PowerCap Module with Cap, 34-Leads, Body 24.7 x.25.3mm, Pitch 1.27mm)
pins: 1 NC, 2 NC, 3 NC, 4 ~{RST} (oc), 5 VCC (power), 6 ~{WE} (in), 7 ~{OE} (in), 8 ~{CE} (in), 9 DQ7 (io), 10 DQ6 (io), 11 DQ5 (io), 12 DQ4 (io), 13 DQ3 (io), 14 DQ2 (io), 15 DQ1 (io), 16 DQ0 (io), 17 GND (power), 18 A0 (in), 19 A1 (in), 20 A2 (in), 21 A3 (in), 22 A4 (in), 23 A5 (in), 24 A6 (in), 25 A7 (in), 26 A8 (in), 27 A9 (in), 28 A10 (in), 29 A11 (in), 30 A12 (in), 31 NC, 32 NC, 33 NC, 34 NC

## DS1744-70+
designator U?
Y2K-Compliant Nonvolatile Timekeeping RAM, 5.0V, 28-Pin EDIP, 0 to 70 degC, Pb-Free; DatasheetVersion: Mar-2012; PackageVersion: revA, Feb-2009; PackageReference: MDF28+3; PackageDescription: 28-Pin Encapsulated Dual-In-Line Module, 2.54 mm Pitch, EDIP, 740-mil, Pb-Free; ComponentLink1Description: Manufacturer URL; ComponentLink1URL: http://www.maxim-ic.com; ComponentLink2Description: Datasheet; ComponentLink2URL: http://datasheets.maxim-ic.com/en/ds/DS1744-DS1744P.pdf; ComponentLink3Description: Package Specification; ComponentLink3URL: http://pdfserv.maxim-ic.com/package_dwgs/21-0245.PDF
footprint MDF28+3 (DIP, 28 Rectangular Pins, Body 38.2x18.5mm, Row Space 15.24mm, Pitch 2.54mm)
pins: 1 A14 (in), 2 A12 (in), 3 A7 (in), 4 A6 (in), 5 A5 (in), 6 A4 (in), 7 A3 (in), 8 A2 (in), 9 A1 (in), 10 A0 (in), 11 DQ0 (io), 12 DQ1 (io), 13 DQ2 (io), 14 GND (power), 15 DQ3 (io), 16 DQ4 (io), 17 DQ5 (io), 18 DQ6 (io), 19 DQ7 (io), 20 ~{CE} (in), 21 A10 (in), 22 ~{OE} (in), 23 A11 (in), 24 A9 (in), 25 A8 (in), 26 A13 (in), 27 ~{WE} (in), 28 VCC (power)

## DS1744-70IND+
designator U?
Y2K-Compliant Nonvolatile Timekeeping RAM, 5.0V, 28-Pin EDIP, -40 to 85 degC, Pb-Free; DatasheetVersion: Mar-2012; PackageVersion: revA, Feb-2009; PackageReference: MDF28+3; PackageDescription: 28-Pin Encapsulated Dual-In-Line Module, 2.54 mm Pitch, EDIP, 740-mil, Pb-Free; ComponentLink1Description: Manufacturer URL; ComponentLink1URL: http://www.maxim-ic.com; ComponentLink2Description: Datasheet; ComponentLink2URL: http://datasheets.maxim-ic.com/en/ds/DS1744-DS1744P.pdf; ComponentLink3Description: Package Specification; ComponentLink3URL: http://pdfserv.maxim-ic.com/package_dwgs/21-0245.PDF
footprint MDF28+3 (DIP, 28 Rectangular Pins, Body 38.2x18.5mm, Row Space 15.24mm, Pitch 2.54mm)
pins: 1 A14 (in), 2 A12 (in), 3 A7 (in), 4 A6 (in), 5 A5 (in), 6 A4 (in), 7 A3 (in), 8 A2 (in), 9 A1 (in), 10 A0 (in), 11 DQ0 (io), 12 DQ1 (io), 13 DQ2 (io), 14 GND (power), 15 DQ3 (io), 16 DQ4 (io), 17 DQ5 (io), 18 DQ6 (io), 19 DQ7 (io), 20 ~{CE} (in), 21 A10 (in), 22 ~{OE} (in), 23 A11 (in), 24 A9 (in), 25 A8 (in), 26 A13 (in), 27 ~{WE} (in), 28 VCC (power)

## DS1744P-70+
designator U?
Y2K-Compliant Nonvolatile Timekeeping RAM, 5.0V, 34-Pin PowerCap, 0 to 70 degC, Pb-Free; DatasheetVersion: Mar-2012; PackageVersion: revA, 2004; PackageReference: PC2+2; PackageDescription: 34-Pin PowerCap 0.990 Module with Cap, PCAP, Pb-Free; ComponentLink1Description: Manufacturer URL; ComponentLink1URL: http://www.maxim-ic.com; ComponentLink2Description: Datasheet; ComponentLink2URL: http://datasheets.maxim-ic.com/en/ds/DS1744-DS1744P.pdf; ComponentLink3Description: Package Specification; ComponentLink3URL: http://pdfserv.maxim-ic.com/package_dwgs/21-0246.PDF
footprint PC2+2 (PowerCap Module with Cap, 34-Leads, Body 24.7 x.25.3mm, Pitch 1.27mm)
pins: 1 NC, 2 NC, 3 NC, 4 ~{RST} (oc), 5 VCC (power), 6 ~{WE} (in), 7 ~{OE} (in), 8 ~{CE} (in), 9 DQ7 (io), 10 DQ6 (io), 11 DQ5 (io), 12 DQ4 (io), 13 DQ3 (io), 14 DQ2 (io), 15 DQ1 (io), 16 DQ0 (io), 17 GND (power), 18 A0 (in), 19 A1 (in), 20 A2 (in), 21 A3 (in), 22 A4 (in), 23 A5 (in), 24 A6 (in), 25 A7 (in), 26 A8 (in), 27 A9 (in), 28 A10 (in), 29 A11 (in), 30 A12 (in), 31 A13 (in), 32 A14 (in), 33 NC, 34 NC

## DS1744P-70IND+
designator U?
Y2K-Compliant Nonvolatile Timekeeping RAM, 5.0V, 34-Pin PowerCap, -40 to 85 degC, Pb-Free; DatasheetVersion: Mar-2012; PackageVersion: revA, 2004; PackageReference: PC2+2; PackageDescription: 34-Pin PowerCap 0.990 Module with Cap, PCAP, Pb-Free; ComponentLink1Description: Manufacturer URL; ComponentLink1URL: http://www.maxim-ic.com; ComponentLink2Description: Datasheet; ComponentLink2URL: http://datasheets.maxim-ic.com/en/ds/DS1744-DS1744P.pdf; ComponentLink3Description: Package Specification; ComponentLink3URL: http://pdfserv.maxim-ic.com/package_dwgs/21-0246.PDF
footprint PC2+2 (PowerCap Module with Cap, 34-Leads, Body 24.7 x.25.3mm, Pitch 1.27mm)
pins: 1 NC, 2 NC, 3 NC, 4 ~{RST} (oc), 5 VCC (power), 6 ~{WE} (in), 7 ~{OE} (in), 8 ~{CE} (in), 9 DQ7 (io), 10 DQ6 (io), 11 DQ5 (io), 12 DQ4 (io), 13 DQ3 (io), 14 DQ2 (io), 15 DQ1 (io), 16 DQ0 (io), 17 GND (power), 18 A0 (in), 19 A1 (in), 20 A2 (in), 21 A3 (in), 22 A4 (in), 23 A5 (in), 24 A6 (in), 25 A7 (in), 26 A8 (in), 27 A9 (in), 28 A10 (in), 29 A11 (in), 30 A12 (in), 31 A13 (in), 32 A14 (in), 33 NC, 34 NC

## DS1744W-120+
designator U?
Y2K-Compliant Nonvolatile Timekeeping RAM, 3.3V, 28-Pin EDIP, 0 to 70 degC, Pb-Free; DatasheetVersion: Mar-2012; PackageVersion: revA, Feb-2009; PackageReference: MDF28+3; PackageDescription: 28-Pin Encapsulated Dual-In-Line Module, 2.54 mm Pitch, EDIP, 740-mil, Pb-Free; ComponentLink1Description: Manufacturer URL; ComponentLink1URL: http://www.maxim-ic.com; ComponentLink2Description: Datasheet; ComponentLink2URL: http://datasheets.maxim-ic.com/en/ds/DS1744-DS1744P.pdf; ComponentLink3Description: Package Specification; ComponentLink3URL: http://pdfserv.maxim-ic.com/package_dwgs/21-0245.PDF
footprint MDF28+3 (DIP, 28 Rectangular Pins, Body 38.2x18.5mm, Row Space 15.24mm, Pitch 2.54mm)
pins: 1 A14 (in), 2 A12 (in), 3 A7 (in), 4 A6 (in), 5 A5 (in), 6 A4 (in), 7 A3 (in), 8 A2 (in), 9 A1 (in), 10 A0 (in), 11 DQ0 (io), 12 DQ1 (io), 13 DQ2 (io), 14 GND (power), 15 DQ3 (io), 16 DQ4 (io), 17 DQ5 (io), 18 DQ6 (io), 19 DQ7 (io), 20 ~{CE} (in), 21 A10 (in), 22 ~{OE} (in), 23 A11 (in), 24 A9 (in), 25 A8 (in), 26 A13 (in), 27 ~{WE} (in), 28 VCC (power)

## DS1744W-120IND+
designator U?
Y2K-Compliant Nonvolatile Timekeeping RAM, 3.3V, 28-Pin EDIP, -40 to 85 degC, Pb-Free; DatasheetVersion: Mar-2012; PackageVersion: revA, Feb-2009; PackageReference: MDF28+3; PackageDescription: 28-Pin Encapsulated Dual-In-Line Module, 2.54 mm Pitch, EDIP, 740-mil, Pb-Free; ComponentLink1Description: Manufacturer URL; ComponentLink1URL: http://www.maxim-ic.com; ComponentLink2Description: Datasheet; ComponentLink2URL: http://datasheets.maxim-ic.com/en/ds/DS1744-DS1744P.pdf; ComponentLink3Description: Package Specification; ComponentLink3URL: http://pdfserv.maxim-ic.com/package_dwgs/21-0245.PDF
footprint MDF28+3 (DIP, 28 Rectangular Pins, Body 38.2x18.5mm, Row Space 15.24mm, Pitch 2.54mm)
pins: 1 A14 (in), 2 A12 (in), 3 A7 (in), 4 A6 (in), 5 A5 (in), 6 A4 (in), 7 A3 (in), 8 A2 (in), 9 A1 (in), 10 A0 (in), 11 DQ0 (io), 12 DQ1 (io), 13 DQ2 (io), 14 GND (power), 15 DQ3 (io), 16 DQ4 (io), 17 DQ5 (io), 18 DQ6 (io), 19 DQ7 (io), 20 ~{CE} (in), 21 A10 (in), 22 ~{OE} (in), 23 A11 (in), 24 A9 (in), 25 A8 (in), 26 A13 (in), 27 ~{WE} (in), 28 VCC (power)

## DS1744WP-120+
designator U?
Y2K-Compliant Nonvolatile Timekeeping RAM, 3.3V, 34-Pin PowerCap, 0 to 70 degC, Pb-Free; DatasheetVersion: Mar-2012; PackageVersion: revA, 2004; PackageReference: PC2+2; PackageDescription: 34-Pin PowerCap 0.990 Module with Cap, PCAP, Pb-Free; ComponentLink1Description: Manufacturer URL; ComponentLink1URL: http://www.maxim-ic.com; ComponentLink2Description: Datasheet; ComponentLink2URL: http://datasheets.maxim-ic.com/en/ds/DS1744-DS1744P.pdf; ComponentLink3Description: Package Specification; ComponentLink3URL: http://pdfserv.maxim-ic.com/package_dwgs/21-0246.PDF
footprint PC2+2 (PowerCap Module with Cap, 34-Leads, Body 24.7 x.25.3mm, Pitch 1.27mm)
pins: 1 NC, 2 NC, 3 NC, 4 ~{RST} (oc), 5 VCC (power), 6 ~{WE} (in), 7 ~{OE} (in), 8 ~{CE} (in), 9 DQ7 (io), 10 DQ6 (io), 11 DQ5 (io), 12 DQ4 (io), 13 DQ3 (io), 14 DQ2 (io), 15 DQ1 (io), 16 DQ0 (io), 17 GND (power), 18 A0 (in), 19 A1 (in), 20 A2 (in), 21 A3 (in), 22 A4 (in), 23 A5 (in), 24 A6 (in), 25 A7 (in), 26 A8 (in), 27 A9 (in), 28 A10 (in), 29 A11 (in), 30 A12 (in), 31 A13 (in), 32 A14 (in), 33 NC, 34 NC

## DS1744WP-120IND+
designator U?
Y2K-Compliant Nonvolatile Timekeeping RAM, 3.3V, 34-Pin PowerCap, -40 to 85 degC, Pb-Free; DatasheetVersion: Mar-2012; PackageVersion: revA, 2004; PackageReference: PC2+2; PackageDescription: 34-Pin PowerCap 0.990 Module with Cap, PCAP, Pb-Free; ComponentLink1Description: Manufacturer URL; ComponentLink1URL: http://www.maxim-ic.com; ComponentLink2Description: Datasheet; ComponentLink2URL: http://datasheets.maxim-ic.com/en/ds/DS1744-DS1744P.pdf; ComponentLink3Description: Package Specification; ComponentLink3URL: http://pdfserv.maxim-ic.com/package_dwgs/21-0246.PDF
footprint PC2+2 (PowerCap Module with Cap, 34-Leads, Body 24.7 x.25.3mm, Pitch 1.27mm)
pins: 1 NC, 2 NC, 3 NC, 4 ~{RST} (oc), 5 VCC (power), 6 ~{WE} (in), 7 ~{OE} (in), 8 ~{CE} (in), 9 DQ7 (io), 10 DQ6 (io), 11 DQ5 (io), 12 DQ4 (io), 13 DQ3 (io), 14 DQ2 (io), 15 DQ1 (io), 16 DQ0 (io), 17 GND (power), 18 A0 (in), 19 A1 (in), 20 A2 (in), 21 A3 (in), 22 A4 (in), 23 A5 (in), 24 A6 (in), 25 A7 (in), 26 A8 (in), 27 A9 (in), 28 A10 (in), 29 A11 (in), 30 A12 (in), 31 A13 (in), 32 A14 (in), 33 NC, 34 NC

## DS1746-70+
designator U?
Y2K-Compliant Nonvolatile Timekeeping RAM, 5.0V, 32-Pin EDIP, 0 to 70 degC, Pb-Free; DatasheetVersion: Mar-2012; PackageVersion: revA, Feb-2009; PackageReference: MDF32+1; PackageDescription: 32-Pin Encapsulated Dual-In-Line Module, 2.54 mm Pitch, EDIP, Pb-Free; ComponentLink1Description: Manufacturer URL; ComponentLink1URL: http://www.maxim-ic.com; ComponentLink2Description: Datasheet; ComponentLink2URL: http://datasheets.maxim-ic.com/en/ds/DS1746-DS1746P.pdf; ComponentLink3Description: Package Specification; ComponentLink3URL: http://pdfserv.maxim-ic.com/package_dwgs/21-0245.PDF
footprint MDF32+1 (DIP, 32 Rectangular Pins, Body 43.1x18.5mm, Row Space 15.24mm, Pitch 2.54mm)
pins: 1 NC, 2 A16 (in), 3 A14 (in), 4 A12 (in), 5 A7 (in), 6 A6 (in), 7 A5 (in), 8 A4 (in), 9 A3 (in), 10 A2 (in), 11 A1 (in), 12 A0 (in), 13 DQ0 (io), 14 DQ1 (io), 15 DQ2 (io), 16 GND (power), 17 DQ3 (io), 18 DQ4 (io), 19 DQ5 (io), 20 DQ6 (io), 21 DQ7 (io), 22 ~{CE} (in), 23 A10 (in), 24 ~{OE} (in), 25 A11 (in), 26 A9 (in), 27 A8 (in), 28 A13 (in), 29 ~{WE} (in), 30 NC, 31 A15 (in), 32 VCC (power)

## DS1746-70IND+
designator U?
Y2K-Compliant Nonvolatile Timekeeping RAM, 5.0V, 32-Pin EDIP, -40 to 85 degC, Pb-Free; DatasheetVersion: Mar-2012; PackageVersion: revA, Feb-2009; PackageReference: MDF32+1; PackageDescription: 32-Pin Encapsulated Dual-In-Line Module, 2.54 mm Pitch, EDIP, Pb-Free; ComponentLink1Description: Manufacturer URL; ComponentLink1URL: http://www.maxim-ic.com; ComponentLink2Description: Datasheet; ComponentLink2URL: http://datasheets.maxim-ic.com/en/ds/DS1746-DS1746P.pdf; ComponentLink3Description: Package Specification; ComponentLink3URL: http://pdfserv.maxim-ic.com/package_dwgs/21-0245.PDF
footprint MDF32+1 (DIP, 32 Rectangular Pins, Body 43.1x18.5mm, Row Space 15.24mm, Pitch 2.54mm)
pins: 1 NC, 2 A16 (in), 3 A14 (in), 4 A12 (in), 5 A7 (in), 6 A6 (in), 7 A5 (in), 8 A4 (in), 9 A3 (in), 10 A2 (in), 11 A1 (in), 12 A0 (in), 13 DQ0 (io), 14 DQ1 (io), 15 DQ2 (io), 16 GND (power), 17 DQ3 (io), 18 DQ4 (io), 19 DQ5 (io), 20 DQ6 (io), 21 DQ7 (io), 22 ~{CE} (in), 23 A10 (in), 24 ~{OE} (in), 25 A11 (in), 26 A9 (in), 27 A8 (in), 28 A13 (in), 29 ~{WE} (in), 30 NC, 31 A15 (in), 32 VCC (power)

## DS1746P-70+
designator U?
Y2K-Compliant Nonvolatile Timekeeping RAM, 5.0V, 34-Pin PowerCap, 0 to 70 degC, Pb-Free; DatasheetVersion: Mar-2012; PackageVersion: revA, 2004; PackageReference: PC2+6; PackageDescription: 34-Pin PowerCap 0.990 Module with Cap, PCAP, Pb-Free; ComponentLink1Description: Manufacturer URL; ComponentLink1URL: http://www.maxim-ic.com; ComponentLink2Description: Datasheet; ComponentLink2URL: http://datasheets.maxim-ic.com/en/ds/DS1746-DS1746P.pdf; ComponentLink3Description: Package Specification; ComponentLink3URL: http://pdfserv.maxim-ic.com/package_dwgs/21-0246.PDF
footprint PC2+6 (PowerCap Module with Cap, 34-Leads, Body 24.7 x.25.3mm, Pitch 1.27mm)
pins: 1 NC, 2 A15 (in), 3 A16 (in), 4 ~{RST} (oc), 5 VCC (power), 6 ~{WE} (in), 7 ~{OE} (in), 8 ~{CE} (in), 9 DQ7 (io), 10 DQ6 (io), 11 DQ5 (io), 12 DQ4 (io), 13 DQ3 (io), 14 DQ2 (io), 15 DQ1 (io), 16 DQ0 (io), 17 GND (power), 18 A0 (in), 19 A1 (in), 20 A2 (in), 21 A3 (in), 22 A4 (in), 23 A5 (in), 24 A6 (in), 25 A7 (in), 26 A8 (in), 27 A9 (in), 28 A10 (in), 29 A11 (in), 30 A12 (in), 31 A13 (in), 32 A14 (in), 33 NC, 34 NC

## DS1746P-70IND+
designator U?
Y2K-Compliant Nonvolatile Timekeeping RAM, 5.0V, 34-Pin PowerCap, -40 to 85 degC, Pb-Free; DatasheetVersion: Mar-2012; PackageVersion: revA, 2004; PackageReference: PC2+6; PackageDescription: 34-Pin PowerCap 0.990 Module with Cap, PCAP, Pb-Free; ComponentLink1Description: Manufacturer URL; ComponentLink1URL: http://www.maxim-ic.com; ComponentLink2Description: Datasheet; ComponentLink2URL: http://datasheets.maxim-ic.com/en/ds/DS1746-DS1746P.pdf; ComponentLink3Description: Package Specification; ComponentLink3URL: http://pdfserv.maxim-ic.com/package_dwgs/21-0246.PDF
footprint PC2+6 (PowerCap Module with Cap, 34-Leads, Body 24.7 x.25.3mm, Pitch 1.27mm)
pins: 1 NC, 2 A15 (in), 3 A16 (in), 4 ~{RST} (oc), 5 VCC (power), 6 ~{WE} (in), 7 ~{OE} (in), 8 ~{CE} (in), 9 DQ7 (io), 10 DQ6 (io), 11 DQ5 (io), 12 DQ4 (io), 13 DQ3 (io), 14 DQ2 (io), 15 DQ1 (io), 16 DQ0 (io), 17 GND (power), 18 A0 (in), 19 A1 (in), 20 A2 (in), 21 A3 (in), 22 A4 (in), 23 A5 (in), 24 A6 (in), 25 A7 (in), 26 A8 (in), 27 A9 (in), 28 A10 (in), 29 A11 (in), 30 A12 (in), 31 A13 (in), 32 A14 (in), 33 NC, 34 NC

## DS1746W-120+
designator U?
Y2K-Compliant Nonvolatile Timekeeping RAM, 3.3V, 32-Pin EDIP, 0 to 70 degC, Pb-Free; DatasheetVersion: Mar-2012; PackageVersion: revA, Feb-2009; PackageReference: MDF32+1; PackageDescription: 32-Pin Encapsulated Dual-In-Line Module, 2.54 mm Pitch, EDIP, Pb-Free; ComponentLink1Description: Manufacturer URL; ComponentLink1URL: http://www.maxim-ic.com; ComponentLink2Description: Datasheet; ComponentLink2URL: http://datasheets.maxim-ic.com/en/ds/DS1746-DS1746P.pdf; ComponentLink3Description: Package Specification; ComponentLink3URL: http://pdfserv.maxim-ic.com/package_dwgs/21-0245.PDF
footprint MDF32+1 (DIP, 32 Rectangular Pins, Body 43.1x18.5mm, Row Space 15.24mm, Pitch 2.54mm)
pins: 1 NC, 2 A16 (in), 3 A14 (in), 4 A12 (in), 5 A7 (in), 6 A6 (in), 7 A5 (in), 8 A4 (in), 9 A3 (in), 10 A2 (in), 11 A1 (in), 12 A0 (in), 13 DQ0 (io), 14 DQ1 (io), 15 DQ2 (io), 16 GND (power), 17 DQ3 (io), 18 DQ4 (io), 19 DQ5 (io), 20 DQ6 (io), 21 DQ7 (io), 22 ~{CE} (in), 23 A10 (in), 24 ~{OE} (in), 25 A11 (in), 26 A9 (in), 27 A8 (in), 28 A13 (in), 29 ~{WE} (in), 30 NC, 31 A15 (in), 32 VCC (power)

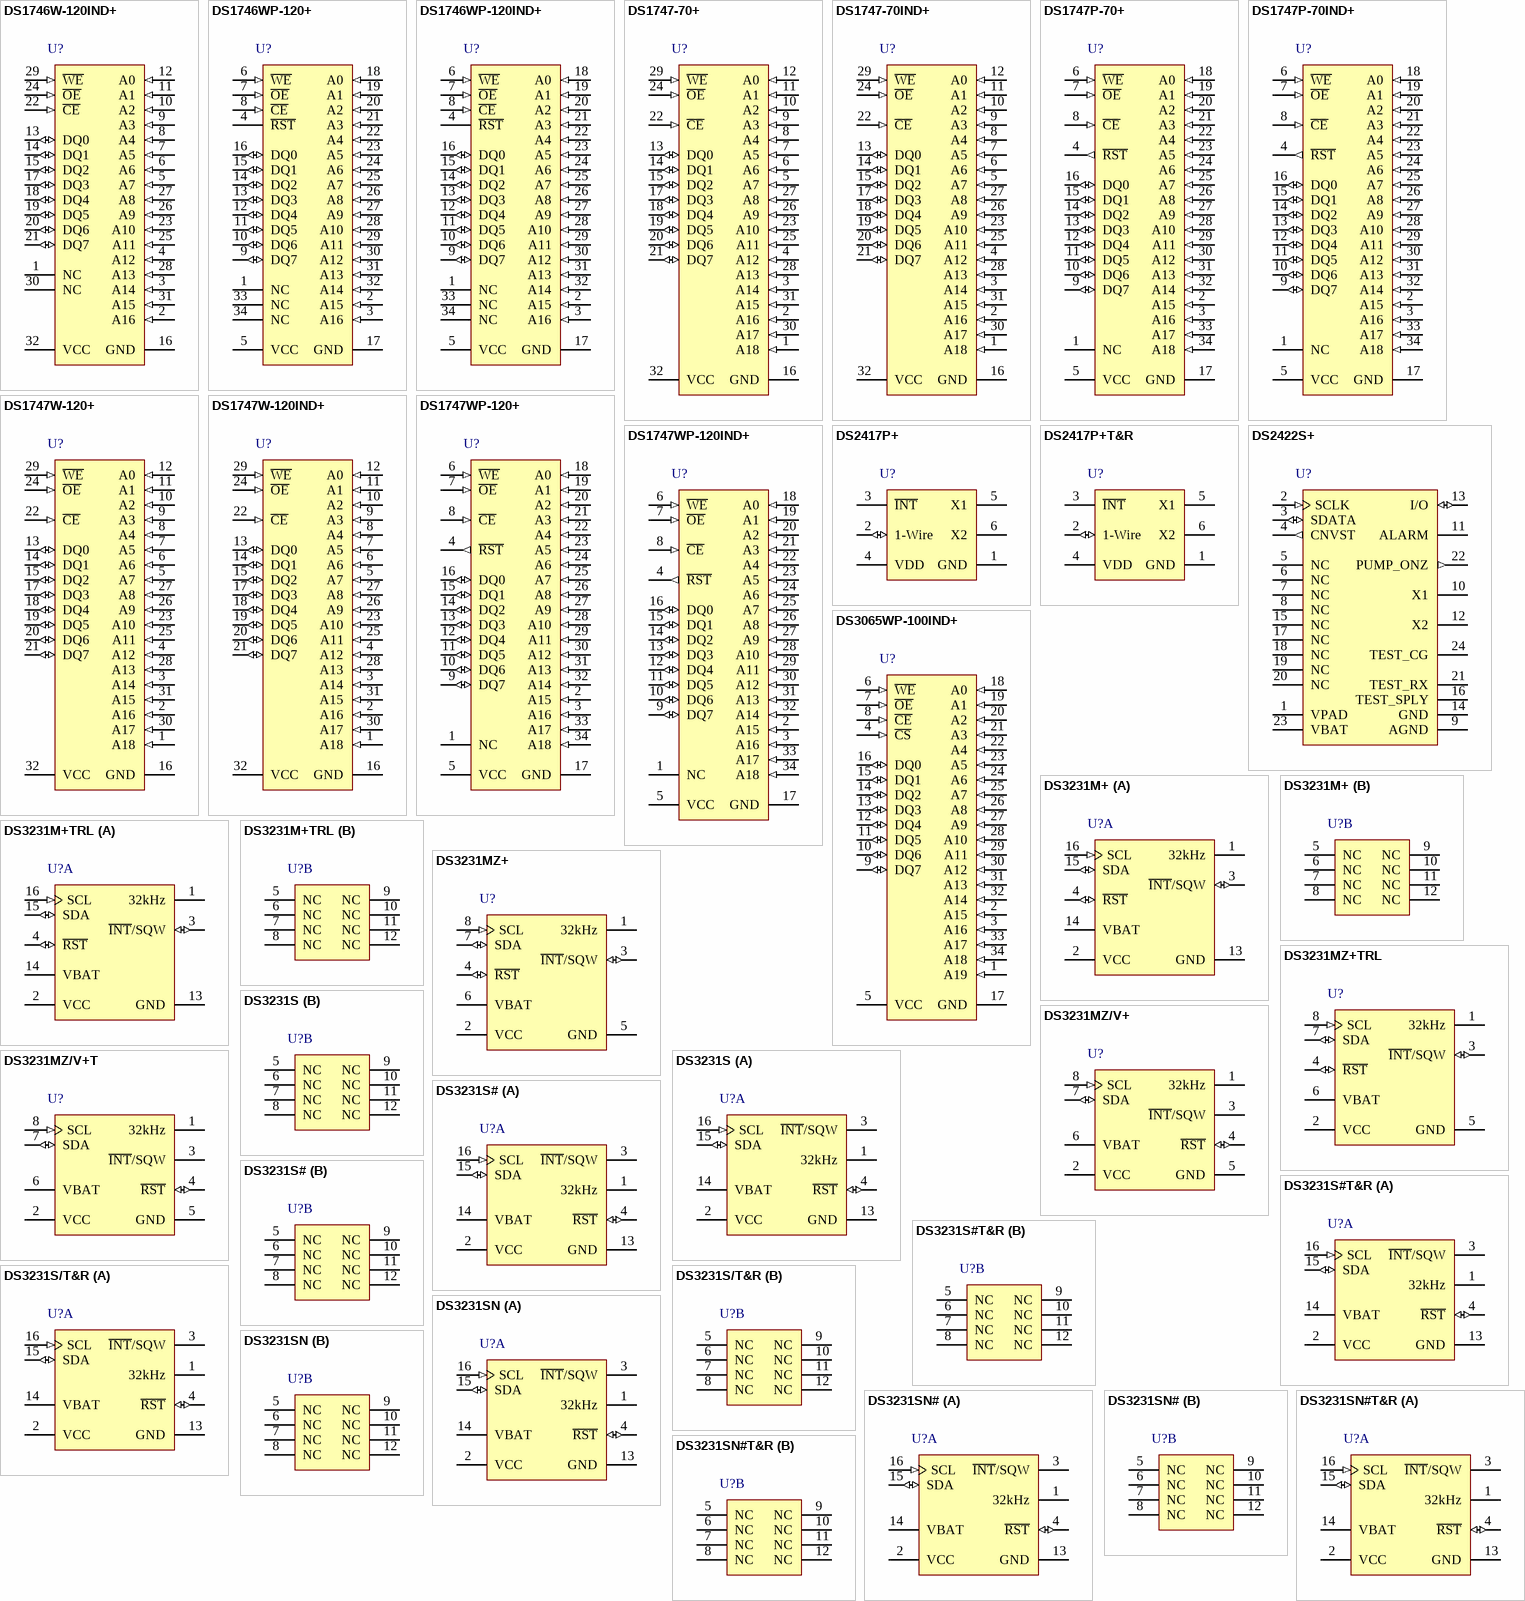
[diagram p17: symbols DS1746W-120IND+ to DS3231SN#T&R]

## DS1746W-120IND+
designator U?
Y2K-Compliant Nonvolatile Timekeeping RAM, 3.3V, 32-Pin EDIP, -40 to 85 degC, Pb-Free; DatasheetVersion: Mar-2012; PackageVersion: revA, Feb-2009; PackageReference: MDF32+1; PackageDescription: 32-Pin Encapsulated Dual-In-Line Module, 2.54 mm Pitch, EDIP, Pb-Free; ComponentLink1Description: Manufacturer URL; ComponentLink1URL: http://www.maxim-ic.com; ComponentLink2Description: Datasheet; ComponentLink2URL: http://datasheets.maxim-ic.com/en/ds/DS1746-DS1746P.pdf; ComponentLink3Description: Package Specification; ComponentLink3URL: http://pdfserv.maxim-ic.com/package_dwgs/21-0245.PDF
footprint MDF32+1 (DIP, 32 Rectangular Pins, Body 43.1x18.5mm, Row Space 15.24mm, Pitch 2.54mm)
pins: 1 NC, 2 A16 (in), 3 A14 (in), 4 A12 (in), 5 A7 (in), 6 A6 (in), 7 A5 (in), 8 A4 (in), 9 A3 (in), 10 A2 (in), 11 A1 (in), 12 A0 (in), 13 DQ0 (io), 14 DQ1 (io), 15 DQ2 (io), 16 GND (power), 17 DQ3 (io), 18 DQ4 (io), 19 DQ5 (io), 20 DQ6 (io), 21 DQ7 (io), 22 ~{CE} (in), 23 A10 (in), 24 ~{OE} (in), 25 A11 (in), 26 A9 (in), 27 A8 (in), 28 A13 (in), 29 ~{WE} (in), 30 NC, 31 A15 (in), 32 VCC (power)

## DS1746WP-120+
designator U?
Y2K-Compliant Nonvolatile Timekeeping RAM, 3.3V, 34-Pin PowerCap, 0 to 70 degC, Pb-Free; DatasheetVersion: Mar-2012; PackageVersion: revA, 2004; PackageReference: PC2+6; PackageDescription: 34-Pin PowerCap 0.990 Module with Cap, PCAP, Pb-Free; ComponentLink1Description: Manufacturer URL; ComponentLink1URL: http://www.maxim-ic.com; ComponentLink2Description: Datasheet; ComponentLink2URL: http://datasheets.maxim-ic.com/en/ds/DS1746-DS1746P.pdf; ComponentLink3Description: Package Specification; ComponentLink3URL: http://pdfserv.maxim-ic.com/package_dwgs/21-0246.PDF
footprint PC2+6 (PowerCap Module with Cap, 34-Leads, Body 24.7 x.25.3mm, Pitch 1.27mm)
pins: 1 NC, 2 A15 (in), 3 A16 (in), 4 ~{RST} (oc), 5 VCC (power), 6 ~{WE} (in), 7 ~{OE} (in), 8 ~{CE} (in), 9 DQ7 (io), 10 DQ6 (io), 11 DQ5 (io), 12 DQ4 (io), 13 DQ3 (io), 14 DQ2 (io), 15 DQ1 (io), 16 DQ0 (io), 17 GND (power), 18 A0 (in), 19 A1 (in), 20 A2 (in), 21 A3 (in), 22 A4 (in), 23 A5 (in), 24 A6 (in), 25 A7 (in), 26 A8 (in), 27 A9 (in), 28 A10 (in), 29 A11 (in), 30 A12 (in), 31 A13 (in), 32 A14 (in), 33 NC, 34 NC

## DS1746WP-120IND+
designator U?
Y2K-Compliant Nonvolatile Timekeeping RAM, 3.3V, 34-Pin PowerCap, -40 to 85 degC, Pb-Free; DatasheetVersion: Mar-2012; PackageVersion: revA, 2004; PackageReference: PC2+6; PackageDescription: 34-Pin PowerCap 0.990 Module with Cap, PCAP, Pb-Free; ComponentLink1Description: Manufacturer URL; ComponentLink1URL: http://www.maxim-ic.com; ComponentLink2Description: Datasheet; ComponentLink2URL: http://datasheets.maxim-ic.com/en/ds/DS1746-DS1746P.pdf; ComponentLink3Description: Package Specification; ComponentLink3URL: http://pdfserv.maxim-ic.com/package_dwgs/21-0246.PDF
footprint PC2+6 (PowerCap Module with Cap, 34-Leads, Body 24.7 x.25.3mm, Pitch 1.27mm)
pins: 1 NC, 2 A15 (in), 3 A16 (in), 4 ~{RST} (oc), 5 VCC (power), 6 ~{WE} (in), 7 ~{OE} (in), 8 ~{CE} (in), 9 DQ7 (io), 10 DQ6 (io), 11 DQ5 (io), 12 DQ4 (io), 13 DQ3 (io), 14 DQ2 (io), 15 DQ1 (io), 16 DQ0 (io), 17 GND (power), 18 A0 (in), 19 A1 (in), 20 A2 (in), 21 A3 (in), 22 A4 (in), 23 A5 (in), 24 A6 (in), 25 A7 (in), 26 A8 (in), 27 A9 (in), 28 A10 (in), 29 A11 (in), 30 A12 (in), 31 A13 (in), 32 A14 (in), 33 NC, 34 NC

## DS1747-70+
designator U?
Y2K-Compliant Nonvolatile Timekeeping RAM, 5.0V, 32-Pin EDIP, 0 to 70 degC, Pb-Free; DatasheetVersion: Mar-2012; PackageVersion: revA, Feb-2009; PackageReference: MDT32+4; PackageDescription: 32-Pin Encapsulated Dual-In-Line Module, 2.54 mm Pitch, EDIP, Pb-Free; ComponentLink1Description: Manufacturer URL; ComponentLink1URL: http://www.maxim-ic.com; ComponentLink2Description: Datasheet; ComponentLink2URL: http://datasheets.maxim-ic.com/en/ds/DS1747-DS1747P.pdf; ComponentLink3Description: Package Specification; ComponentLink3URL: http://pdfserv.maxim-ic.com/package_dwgs/21-0245.PDF
footprint MDT32+4 (DIP, 32 Rectangular Pins, Body 43.1x18.5mm, Row Space 15.24mm, Pitch 2.54mm)
pins: 1 A18 (in), 2 A16 (in), 3 A14 (in), 4 A12 (in), 5 A7 (in), 6 A6 (in), 7 A5 (in), 8 A4 (in), 9 A3 (in), 10 A2 (in), 11 A1 (in), 12 A0 (in), 13 DQ0 (io), 14 DQ1 (io), 15 DQ2 (io), 16 GND (power), 17 DQ3 (io), 18 DQ4 (io), 19 DQ5 (io), 20 DQ6 (io), 21 DQ7 (io), 22 ~{CE} (in), 23 A10 (in), 24 ~{OE} (in), 25 A11 (in), 26 A9 (in), 27 A8 (in), 28 A13 (in), 29 ~{WE} (in), 30 A17 (in), 31 A15 (in), 32 VCC (power)

## DS1747-70IND+
designator U?
Y2K-Compliant Nonvolatile Timekeeping RAM, 5.0V, 32-Pin EDIP, -40 to 85 degC, Pb-Free; DatasheetVersion: Mar-2012; PackageVersion: revA, Feb-2009; PackageReference: MDT32+4; PackageDescription: 32-Pin Encapsulated Dual-In-Line Module, 2.54 mm Pitch, EDIP, Pb-Free; ComponentLink1Description: Manufacturer URL; ComponentLink1URL: http://www.maxim-ic.com; ComponentLink2Description: Datasheet; ComponentLink2URL: http://datasheets.maxim-ic.com/en/ds/DS1747-DS1747P.pdf; ComponentLink3Description: Package Specification; ComponentLink3URL: http://pdfserv.maxim-ic.com/package_dwgs/21-0245.PDF
footprint MDT32+4 (DIP, 32 Rectangular Pins, Body 43.1x18.5mm, Row Space 15.24mm, Pitch 2.54mm)
pins: 1 A18 (in), 2 A16 (in), 3 A14 (in), 4 A12 (in), 5 A7 (in), 6 A6 (in), 7 A5 (in), 8 A4 (in), 9 A3 (in), 10 A2 (in), 11 A1 (in), 12 A0 (in), 13 DQ0 (io), 14 DQ1 (io), 15 DQ2 (io), 16 GND (power), 17 DQ3 (io), 18 DQ4 (io), 19 DQ5 (io), 20 DQ6 (io), 21 DQ7 (io), 22 ~{CE} (in), 23 A10 (in), 24 ~{OE} (in), 25 A11 (in), 26 A9 (in), 27 A8 (in), 28 A13 (in), 29 ~{WE} (in), 30 A17 (in), 31 A15 (in), 32 VCC (power)

## DS1747P-70+
designator U?
Y2K-Compliant Nonvolatile Timekeeping RAM, 5.0V, 34-Pin PowerCap, 0 to 70 degC, Pb-Free; DatasheetVersion: Mar-2012; PackageVersion: revA, 2004; PackageReference: PC2+1; PackageDescription: 34-Pin PowerCap 0.990 Module with Cap, PCAP, Pb-Free; ComponentLink1Description: Manufacturer URL; ComponentLink1URL: http://www.maxim-ic.com; ComponentLink2Description: Datasheet; ComponentLink2URL: http://datasheets.maxim-ic.com/en/ds/DS1747-DS1747P.pdf; ComponentLink3Description: Package Specification; ComponentLink3URL: http://pdfserv.maxim-ic.com/package_dwgs/21-0246.PDF
footprint PC2+1 (PowerCap Module with Cap, 34-Leads, Body 24.7 x.25.3mm, Pitch 1.27mm)
pins: 1 NC, 2 A15 (in), 3 A16 (in), 4 ~{RST} (out), 5 VCC (power), 6 ~{WE} (in), 7 ~{OE} (in), 8 ~{CE} (in), 9 DQ7 (io), 10 DQ6 (io), 11 DQ5 (io), 12 DQ4 (io), 13 DQ3 (io), 14 DQ2 (io), 15 DQ1 (io), 16 DQ0 (io), 17 GND (power), 18 A0 (in), 19 A1 (in), 20 A2 (in), 21 A3 (in), 22 A4 (in), 23 A5 (in), 24 A6 (in), 25 A7 (in), 26 A8 (in), 27 A9 (in), 28 A10 (in), 29 A11 (in), 30 A12 (in), 31 A13 (in), 32 A14 (in), 33 A17 (in), 34 A18 (in)

## DS1747P-70IND+
designator U?
Y2K-Compliant Nonvolatile Timekeeping RAM, 5.0V, 34-Pin PowerCap, -40 to 85 degC, Pb-Free; DatasheetVersion: Mar-2012; PackageVersion: revA, 2004; PackageReference: PC2+1; PackageDescription: 34-Pin PowerCap 0.990 Module with Cap, PCAP, Pb-Free; ComponentLink1Description: Manufacturer URL; ComponentLink1URL: http://www.maxim-ic.com; ComponentLink2Description: Datasheet; ComponentLink2URL: http://datasheets.maxim-ic.com/en/ds/DS1747-DS1747P.pdf; ComponentLink3Description: Package Specification; ComponentLink3URL: http://pdfserv.maxim-ic.com/package_dwgs/21-0246.PDF
footprint PC2+1 (PowerCap Module with Cap, 34-Leads, Body 24.7 x.25.3mm, Pitch 1.27mm)
pins: 1 NC, 2 A15 (in), 3 A16 (in), 4 ~{RST} (out), 5 VCC (power), 6 ~{WE} (in), 7 ~{OE} (in), 8 ~{CE} (in), 9 DQ7 (io), 10 DQ6 (io), 11 DQ5 (io), 12 DQ4 (io), 13 DQ3 (io), 14 DQ2 (io), 15 DQ1 (io), 16 DQ0 (io), 17 GND (power), 18 A0 (in), 19 A1 (in), 20 A2 (in), 21 A3 (in), 22 A4 (in), 23 A5 (in), 24 A6 (in), 25 A7 (in), 26 A8 (in), 27 A9 (in), 28 A10 (in), 29 A11 (in), 30 A12 (in), 31 A13 (in), 32 A14 (in), 33 A17 (in), 34 A18 (in)